# EAGLE library part LT1764 (library IC)
LT1764 - 3A, LDO Regulator
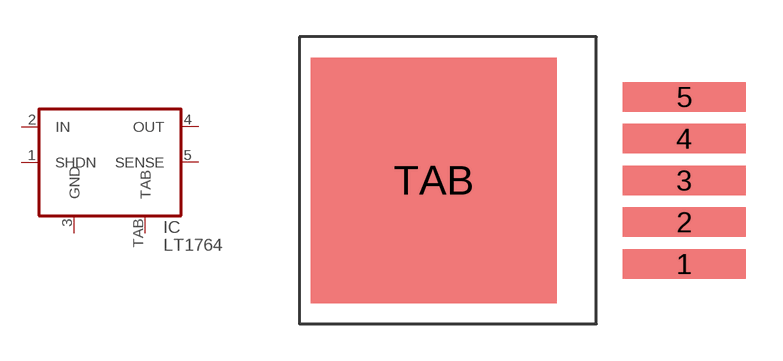
[diagram p116: symbol with the pads of TO-263-5; footprint TO-263-5]

Designator prefix IC

## LT1764ET  [TO-263-5]
1  SHDN
2  IN
3  GND
4  OUT
5  SENSE
TAB  TAB

## Footprint TO-263-5 (pad centres in mm)
5-lead TO-263 package
smd 5 x 1.2: 1 0,-3.4; 2 0,-1.7; 3 0,0; 4 0,1.7; 5 0,3.4
smd 10 x 10: TAB -10.2,0